# Altium footprint library PcbLib3.PcbLib: 1 footprints
Each footprint in its own frame and in the unit in brackets; x right, y up, seen from the top. Pads: shape width x height; smd on the part's side, far side on the other; paste and mask are expansions set on the pad; w line width, h text height; cw(c..) or ccw(c..) is an arc to the next point about the centre after c.
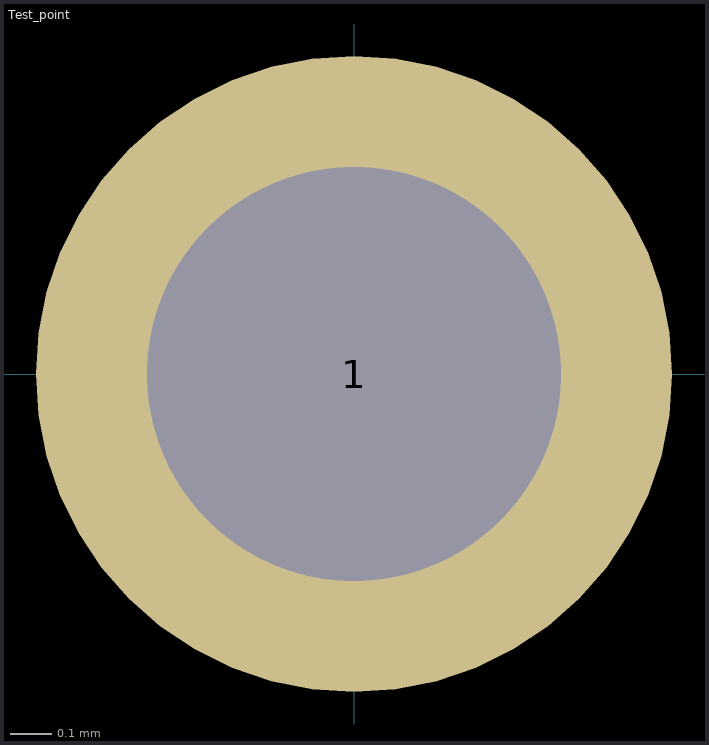
[diagram p0: the footprint, top view; thin cyan lines are the x and y axes]

## Test_point [mil]
pads (1):
  round 60 / inner round 100 / far side round 60 hole 39 paste-99999 mask+4.02: 1(0,0)
Top Paste:
  circle w30: c0,0 r15
  circle w30: c0,0 r15